# Altium schematic symbol library HBRIDGE.SchLib: 1 symbol
Pins are listed as number, name and electrical type; pins without a type are passive.

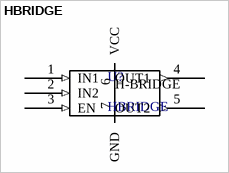
[diagram p0: symbol HBRIDGE]

## HBRIDGE
designator U?
H-bridge motor driver
pins: 1 IN1 (in), 2 IN2 (in), 3 EN (in), 4 OUT1 (out), 5 OUT2 (out), 6 VCC (power), 7 GND (power)
text: H-BRIDGE